# EAGLE library part IME03GR (library matt)
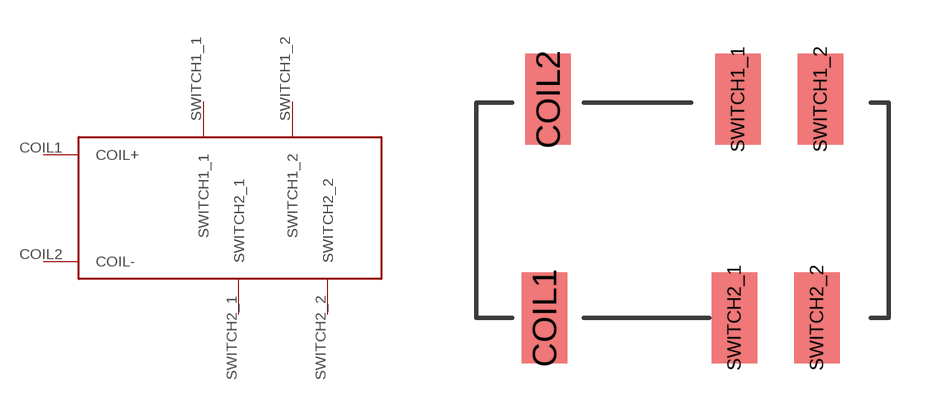
[diagram p4: symbol with the pads of IME03GR; footprint IME03GR]

Designator prefix -

## IME03GR  [IME03GR]
COIL1  COIL+
COIL2  COIL-
SWITCH1_1  SWITCH1_1
SWITCH1_2  SWITCH1_2
SWITCH2_1  SWITCH2_1
SWITCH2_2  SWITCH2_2

## Footprint IME03GR (pad centres in mm)
smd 1.27 x 2.54: COIL1 -3.6,-3; COIL2 -3.5,3.1; SWITCH1_1 1.8,3.1; SWITCH1_2 4.1,3.1; SWITCH2_1 1.7,-3; SWITCH2_2 4,-3